# EAGLE library part PINOCCIO-MINI-256 (library Pinoccio)
Pinoccio Embedded Module
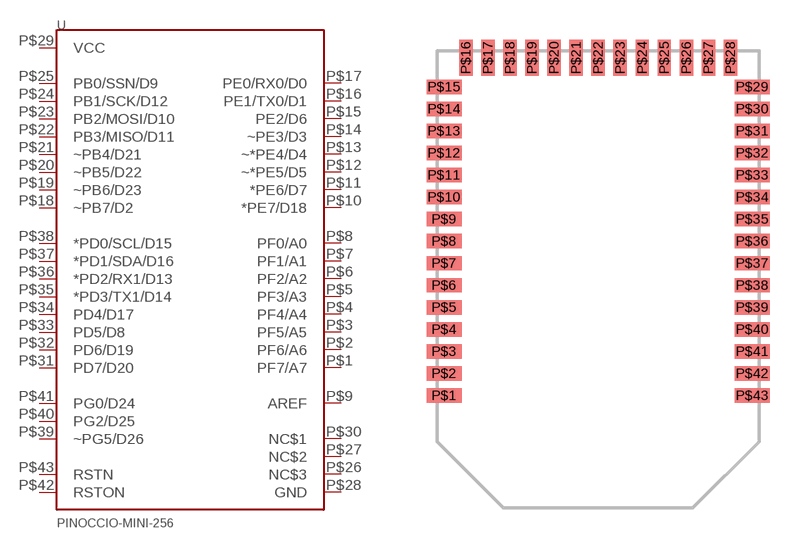
[diagram p22: symbol with the pads of PINOCCIO-MINI-256; footprint PINOCCIO-MINI-256]

Designator prefix -

## PINOCCIO-MINI-256  [PINOCCIO-MINI-256]
P$1  PF7/A7
P$2  PF6/A6
P$3  PF5/A5
P$4  PF4/A4
P$5  PF3/A3
P$6  PF2/A2
P$7  PF1/A1
P$8  PF0/A0
P$9  AREF  in
P$10  *PE7/D18
P$11  *PE6/D7
P$12  ~*PE5/D5
P$13  ~*PE4/D4
P$14  ~PE3/D3
P$15  PE2/D6
P$16  PE1/TX0/D1
P$17  PE0/RX0/D0
P$18  ~PB7/D2
P$19  ~PB6/D23
P$20  ~PB5/D22
P$21  ~PB4/D21
P$22  PB3/MISO/D11
P$23  PB2/MOSI/D10
P$24  PB1/SCK/D12
P$25  PB0/SSN/D9
P$26  NC$3  nc
P$27  NC$2
P$28  GND
P$29  VCC  pwr
P$30  NC$1  nc
P$31  PD7/D20
P$32  PD6/D19
P$33  PD5/D8
P$34  PD4/D17
P$35  *PD3/TX1/D14
P$36  *PD2/RX1/D13
P$37  *PD1/SDA/D16
P$38  *PD0/SCL/D15
P$39  ~PG5/D26
P$40  PG2/D25
P$41  PG0/D24
P$42  RSTON  out
P$43  RSTN  in

## Footprint PINOCCIO-MINI-256 (pad centres in mm)
smd 2.057 x 0.813: P$1 0.394,6.477; P$2 0.394,7.747; P$3 0.394,9.017; P$4 0.394,10.287; P$5 0.394,11.557; P$6 0.394,12.827; P$7 0.394,14.097; P$8 0.394,15.367; P$9 0.394,16.637; P$10 0.394,17.907; P$11 0.394,19.177; P$12 0.394,20.447; P$13 0.394,21.717; P$14 0.394,22.987; P$15 0.394,24.257; P$29 18.148,24.257; P$30 18.148,22.987; P$31 18.148,21.717; P$32 18.148,20.447; P$33 18.148,19.177; P$34 18.148,17.907; P$35 18.148,16.637; P$36 18.148,15.367; P$37 18.148,14.097; P$38 18.148,12.827; P$39 18.148,11.557; P$40 18.148,10.287; P$41 18.148,9.017; P$42 18.148,7.747; P$43 18.148,6.477
smd 0.813 x 2.057: P$16 1.651,25.946; P$17 2.921,25.946; P$18 4.191,25.946; P$19 5.461,25.946; P$20 6.731,25.946; P$21 8.001,25.946; P$22 9.271,25.946; P$23 10.541,25.946; P$24 11.811,25.946; P$25 13.081,25.946; P$26 14.351,25.946; P$27 15.621,25.946; P$28 16.891,25.946